# EAGLE library part ICSP_6P (library MCE_Conectores)
Conector ICSP de 6 pines, con la dristribucion para el PICkit
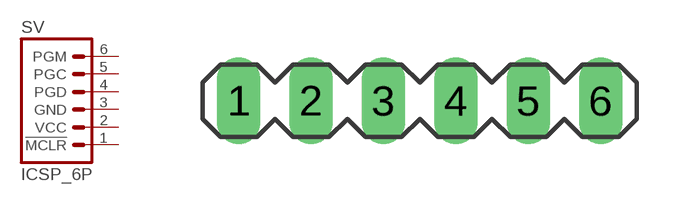
[diagram p1: symbol with the pads of MA06-1; footprint MA06-1]

Designator prefix SV

## ICSP_6P  [MA06-1]
1  !MCLR  pas
2  VCC  pas
3  GND  pas
4  PGD  pas
5  PGC  pas
6  PGM  pas

## Footprint MA06-1 (pad centres in mm)
PIN HEADER
drill 1.016 long: 1 -6.35,0; 2 -3.81,0; 3 -1.27,0; 4 1.27,0; 5 3.81,0; 6 6.35,0